# EAGLE library part RESISTOR-NETWORK (library Passives)
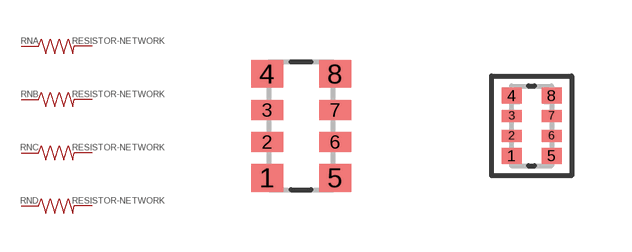
[diagram p3: symbol with the pads of RESISTOR_NETWORK-1206; footprints RESISTOR_NETWORK-1206, RESISTOR_NETWORK-0805]

Designator prefix RN; gates A=RESISTOR B=RESISTOR C=RESISTOR D=RESISTOR

## RESISTOR-NETWORK-1206  [RESISTOR_NETWORK-1206]
1  A:1  pas
2  B:1  pas
3  C:1  pas
4  D:1  pas
5  A:2  pas
6  B:2  pas
7  C:2  pas
8  D:2  pas

## RESISTOR-NETWORK-0805  [RESISTOR_NETWORK-0805]
Pads as for RESISTOR_NETWORK-1206

## Footprint RESISTOR_NETWORK-1206 (pad centres in mm)
smd 0.8 x 0.7: 1 -0.85,-1.3; 4 -0.85,1.3; 5 0.85,-1.3; 8 0.85,1.3
smd 0.8 x 0.5: 2 -0.85,-0.4; 3 -0.85,0.4; 6 0.85,-0.4; 7 0.85,0.4

## Footprint RESISTOR_NETWORK-0805 (pad centres in mm)
smd 0.5 x 0.4: 1 -0.5,-0.753; 4 -0.5,0.753; 5 0.5,-0.753; 8 0.5,0.753
smd 0.5 x 0.3: 2 -0.5,-0.25; 3 -0.5,0.25; 6 0.5,-0.25; 7 0.5,0.25